# EAGLE library part PINA821 (library ina821)
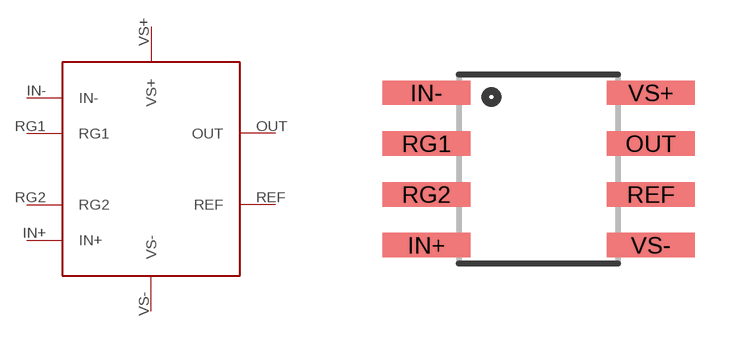
[diagram p0: symbol with the pads of PINA821; footprint PINA821]

Designator prefix -

## PINA821  [PINA821]
IN+  IN+
IN-  IN-
OUT  OUT
REF  REF
RG1  RG1
RG2  RG2
VS+  VS+
VS-  VS-

## Footprint PINA821 (pad centres in mm)
smd 2.21 x 0.61: IN+ -2.743,-1.905; IN- -2.743,1.905; OUT 2.87,0.635; REF 2.87,-0.635; RG1 -2.743,0.635; RG2 -2.743,-0.635; VS+ 2.87,1.905; VS- 2.87,-1.905